# Altium schematic symbol library OpenCore_Sch_Lib.SchLib: 72 symbols (part 1 of 2)
Pins are listed as number, name and electrical type; pins without a type are passive.

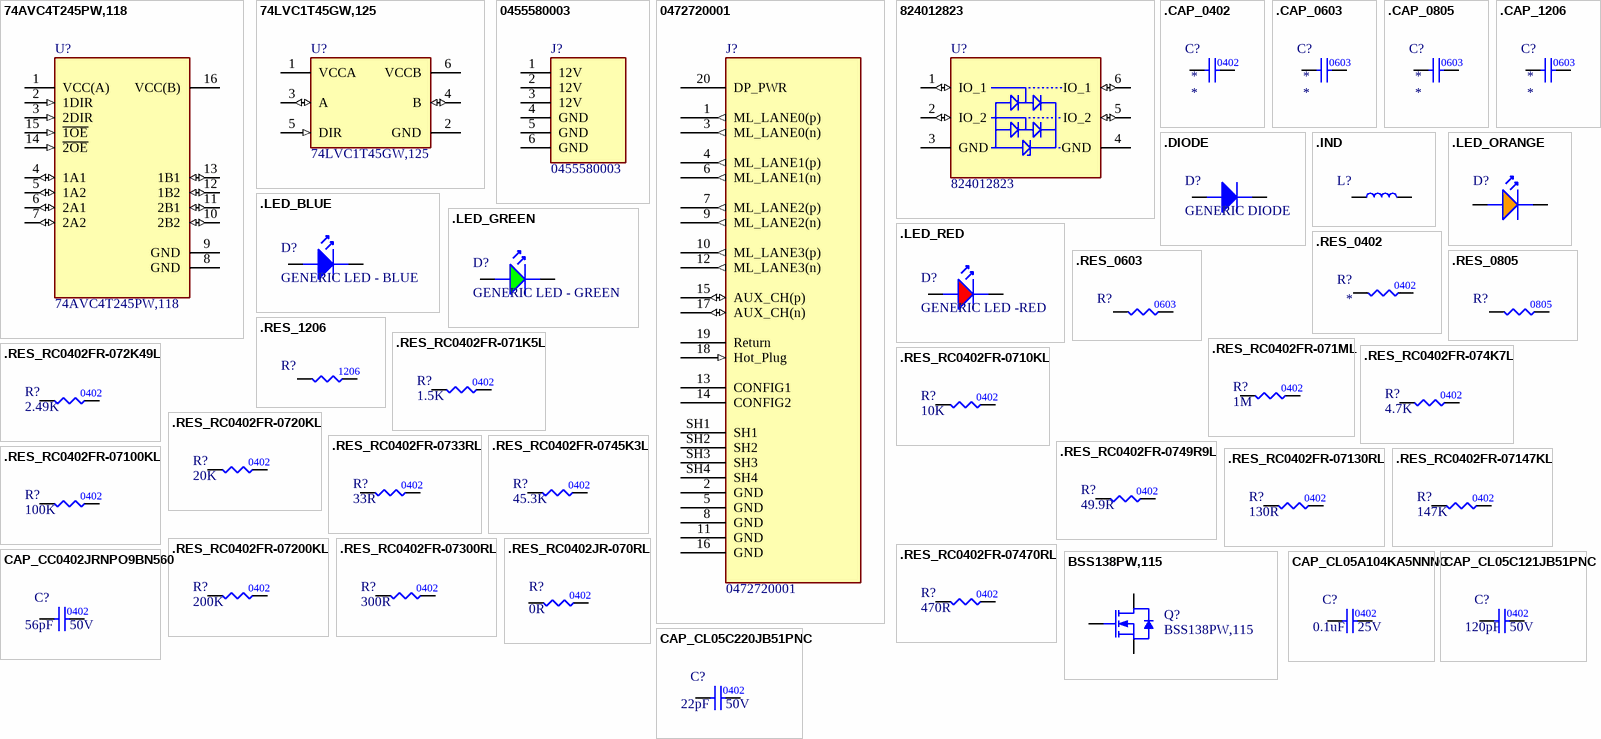
[diagram p0: symbols 74AVC4T245PW,118 to CAP_CL05C220JB51PNC]

## 74AVC4T245PW,118
designator U?
IC TRANSLATION TXRX 3.6V 16TSSOP; Manufacturer_Name: Nexperia; Datasheet Link: https://assets.nexperia.com/documents/data-sheet/74AVC4T245.pdf; Height: 1.1mm; Manufacturer_Part_Number: 74AVC4T245PW,118; Mouser Part Number: 771-74AVC4T245PW118; Mouser Price/Stock: https://www.mouser.co.uk/ProductDetail/Nexperia/74AVC4T245PW118?qs=Lc7Es0%252BIaGKdmOKZhQIwZQ%3D%3D; Arrow Part Number: 74AVC4T245PW,118; Arrow Price/Stock: https://www.arrow.com/en/products/74avc4t245pw118/nexperia?region=nac; Supplier 1: Digi-Key; Supplier Part Number 1: 1727-6573-6-ND
footprint SOP65P640X110-16N
pins: 1 VCC(A) (power), 2 1DIR (in), 3 2DIR (in), 4 1A1 (io), 5 1A2 (io), 6 2A1 (io), 7 2A2 (io), 8 GND (power), 9 GND (power), 10 2B2 (io), 11 2B1 (io), 12 1B2 (io), 13 1B1 (io), 14 ~{2OE} (in), 15 ~{1OE} (in), 16 VCC(B) (power)

## 74LVC1T45GW,125
designator U?
IC TRANSLTR BIDIRECTIONAL 6TSSOP
footprint NEXPERIA_TSSOP6 (TSOP, 6-Leads, Body 2.00x1.25mm, Pitch 0.65mm, IPC Medium Density)
pins: 1 VCCA (power), 2 GND (power), 3 A (io), 4 B (io), 5 DIR (in), 6 VCCB (power)

## 0455580003
designator J?
Connector Header Through Hole, Right Angle 6 position 0.165" (4.20mm); Manufacturer_Name: Molex; Datasheet Link: http://www.molex.com/pdm_docs/sd/455580003_sd.pdf; Height: 10mm; Manufacturer_Part_Number: 0455580003; Mouser Part Number: N/A; Mouser Price/Stock: https://www.mouser.co.uk/ProductDetail/Molex/0455580003?qs=PBcRNPEHKsr%252BGoTfgbyscA%3D%3D; Arrow Part Number: 0455580003; Arrow Price/Stock: https://www.arrow.com/en/products/0455580003/molex?region=nac
footprint 0455580003
pins: 1 12V (power), 2 12V (power), 3 12V (power), 4 GND (power), 5 GND (power), 6 GND (power)

## 0472720001
designator J?
CONN RCPT DISPLAYPORT 20P SMD RA; Manufacturer_Name: Molex; Datasheet Link: http://www.molex.com/pdm_docs/sd/472720001_sd.pdf; Height: 6.9mm; Manufacturer_Part_Number: 0472720001; Mouser Part Number: N/A; Mouser Price/Stock: https://www.mouser.co.uk/ProductDetail/Molex/0472720001?qs=PBcRNPEHKsrarbeLf7n8sg%3D%3D; Arrow Part Number: 0472720001; Arrow Price/Stock: https://www.arrow.com/en/products/0472720001/molex?region=europe
footprint 0472720001
pins: 1 ML_LANE0(p) (out), 2 GND (power), 3 ML_LANE0(n) (out), 4 ML_LANE1(p) (out), 5 GND (power), 6 ML_LANE1(n) (out), 7 ML_LANE2(p) (out), 8 GND (power), 9 ML_LANE2(n) (out), 10 ML_LANE3(p) (out), 11 GND (power), 12 ML_LANE3(n) (out), 13 CONFIG1, 14 CONFIG2, 15 AUX_CH(p) (io), 16 GND (power), 17 AUX_CH(n) (io), 18 Hot_Plug (in), 19 Return (power), 20 DP_PWR (power), SH1, SH2, SH3, SH4

## 824012823
designator U?
TVS DIODE 3.3VWM 13VC DFN1210-6; Manufacturer_Name: Wurth Elektronik; Voltage Breakdown: 4.5V; Datasheet Link: https://www.we-online.com/catalog/datasheet/824012823.pdf; Height: 0.5mm; Manufacturer_Part_Number: 824012823; Mouser Part Number: 710-824012823; Mouser Price/Stock: https://www.mouser.co.uk/ProductDetail/Wurth-Elektronik/824012823?qs=rrS6PyfT74dPtw7q26tZFg%3D%3D; Supplier 1: Digi-Key; Supplier Part Number: 732-11794-6-ND
footprint 824012823
pins: 1 IO_1 (io), 2 IO_2 (io), 3 GND (power), 4 GND (power), 5 IO_2 (io), 6 IO_1 (io)

## .CAP_0402
designator C?, comment CAP_0603  (value not drawn)
GENERIC 0402 CAP; Manufacturer: *; Manufacturer Part Number 1: *; Case/Package: 0402; Mounting Type: Surface Mount; Temperature Coefficient: *; Tolerance: *; Voltage Rating: *; Value: *
footprint CAP0402 (Chip Capacitor, Body 1x0.5mm, Height 0.35mm, IPC Medium Density)
pins: 1, 2

## .CAP_0603
designator C?, comment CAP_0603  (value not drawn)
GENERIC 0603 CAP; Manufacturer: *; Manufacturer Part Number 1: *; Case/Package: 0603; Mounting Type: Surface Mount; Temperature Coefficient: *; Tolerance: *; Voltage Rating: *; Value: *
footprint CAP0603
pins: 1, 2

## .CAP_0805
designator C?, comment CAP_0603  (value not drawn)
GENERIC 0805 CAP; Manufacturer: *; Manufacturer Part Number 1: *; Case/Package: 0805; Mounting Type: Surface Mount; Temperature Coefficient: *; Tolerance: *; Voltage Rating: *; Value: *
footprint CAP0805 (Chip Capacitor, Body 2.0x1.2mm, Height 0.45mm, IPC Medium Density)
pins: 1, 2
text: 0603

## .CAP_1206
designator C?, comment CAP_0603  (value not drawn)
GENERIC 1206 CAP; Manufacturer: *; Manufacturer Part Number 1: *; Case/Package: 1206; Mounting Type: Surface Mount; Temperature Coefficient: *; Tolerance: *; Voltage Rating: *; Value: *
footprint CAP1206 (Chip Capacitor, Body 3.2x1.6mm, Height 0.55mm, IPC Medium Density)
pins: 1, 2
text: 0603

## .DIODE
designator D?, comment GENERIC DIODE
pins: A Anode, K Cathode

## .IND
designator L?, comment Inductor  (value not drawn)
GENERIC INDUCTOR
pins: 1, 2

## .LED_BLUE
designator D?, comment GENERIC LED - BLUE
footprint LED_0603
pins: A Anode, K Cathode

## .LED_GREEN
designator D?, comment GENERIC LED - GREEN
Manufacturer Part Number: 150060VS75000
footprint LED_0603
pins: A Anode, K Cathode

## .LED_ORANGE
designator D?, comment GENERIC LED - ORANGE  (value not drawn)
Manufacturer Part Number: 150060AS75000
footprint LED_0603
pins: A Anode, K Cathode

## .LED_RED
designator D?, comment GENERIC LED -RED
GENERIC LED - RED; Manufacturer Part Number: 150060RS75000
footprint LED_0603
pins: A Anode, K Cathode

## .RES_0402
designator R?, comment RES_0402  (value not drawn)
GENERIC 0402 RES; Manufacturer: *; Manufacturer Part Number: *; Case/Package: *; Tolerance: *; Resistance: *
footprint RES0402 (Chip Resistor, Body 1x0.5mm, IPC Medium Density)
pins: 1, 2
text: 0402

## .RES_0603
designator R?, comment RES_0603  (value not drawn)
GENERIC 0603 RES
footprint RES0603 (Chip Resistor, Body 1.6x0.8mm, IPC Medium Density)
pins: 1, 2
text: 0603

## .RES_0805
designator R?, comment RES_0805  (value not drawn)
GENERIC 0805 RES
pins: 1, 2
text: 0805

## .RES_1206
designator R?, comment RES_1206  (value not drawn)
GENERIC 1206 RES
pins: 1, 2
text: 1206

## .RES_RC0402FR-071K5L
designator R?, comment Resistance: 1.5K  (hidden comment: RES_0402)
RES 1.5K OHM 1% 1/16W 0402; Manufacturer: YAGEO; Manufacturer Part Number: RC0402FR-071K5L; Case/Package: 0402; Tolerance: 1%
footprint RES0402 (Chip Resistor, Body 1x0.5mm, IPC Medium Density)
pins: 1, 2

## .RES_RC0402FR-071ML
designator R?, comment Resistance: 1M  (hidden comment: RES_0402)
RES 1M OHM 1% 1/16W 0402; Manufacturer: YAGEO; Manufacturer Part Number: RC0402FR-071ML; Case/Package: 0402; Tolerance: 1%
footprint RES0402 (Chip Resistor, Body 1x0.5mm, IPC Medium Density)
pins: 1, 2

## .RES_RC0402FR-072K49L
designator R?, comment Resistance: 2.49K  (hidden comment: RES_0402)
RES 2.49K OHM 1% 1/16W 0402; Manufacturer: YAGEO; Manufacturer Part Number: RC0402FR-072K49L; Case/Package: 0402; Tolerance: 1%
footprint RES0402 (Chip Resistor, Body 1x0.5mm, IPC Medium Density)
pins: 1, 2

## .RES_RC0402FR-074K7L
designator R?, comment Resistance: 4.7K  (hidden comment: RES_0402)
RES 4.7K OHM 1% 1/16W 0402; Manufacturer: YAGEO; Manufacturer Part Number: RC0402FR-074K7L; Case/Package: 0402; Tolerance: 1%
footprint RES0402 (Chip Resistor, Body 1x0.5mm, IPC Medium Density)
pins: 1, 2

## .RES_RC0402FR-0710KL
designator R?, comment Resistance: 10K  (hidden comment: RES_0402)
RES 10K OHM 1% 1/16W 0402; Manufacturer: YAGEO; Manufacturer Part Number: RC0402FR-0710KL; Case/Package: 0402; Tolerance: 1%
footprint RES0402 (Chip Resistor, Body 1x0.5mm, IPC Medium Density)
pins: 1, 2

## .RES_RC0402FR-0720KL
designator R?, comment Resistance: 20K  (hidden comment: RES_0402)
RES 20K OHM 1% 1/16W 0402; Manufacturer: YAGEO; Manufacturer Part Number: RC0402FR-0720KL; Case/Package: 0402; Tolerance: 1%
footprint RES0402 (Chip Resistor, Body 1x0.5mm, IPC Medium Density)
pins: 1, 2

## .RES_RC0402FR-0733RL
designator R?, comment Resistance: 33R  (hidden comment: RES_0402)
RES 33 OHM 1% 1/16W 0402; Manufacturer: YAGEO; Manufacturer Part Number: RC0402FR-0733RL; Case/Package: 0402; Tolerance: 1%
footprint RES0402 (Chip Resistor, Body 1x0.5mm, IPC Medium Density)
pins: 1, 2

## .RES_RC0402FR-0745K3L
designator R?, comment Resistance: 45.3K  (hidden comment: RES_0402)
RES 45.3K OHM 1% 1/16W 0402; Manufacturer: YAGEO; Manufacturer Part Number: RC0402FR-0745K3L; Case/Package: 0402; Tolerance: 1%
footprint RES0402 (Chip Resistor, Body 1x0.5mm, IPC Medium Density)
pins: 1, 2

## .RES_RC0402FR-0749R9L
designator R?, comment Resistance: 49.9R  (hidden comment: RES_0402)
RES 49.9 OHM 1% 1/16W 0402; Manufacturer: YAGEO; Manufacturer Part Number: RC0402FR-0749R9L; Case/Package: 0402; Tolerance: 1%
footprint RES0402 (Chip Resistor, Body 1x0.5mm, IPC Medium Density)
pins: 1, 2

## .RES_RC0402FR-07100KL
designator R?, comment Resistance: 100K  (hidden comment: RES_0402)
RES 100K OHM 1% 1/16W 0402; Manufacturer: YAGEO; Manufacturer Part Number: RC0402FR-07100KL; Case/Package: 0402; Tolerance: 1%
footprint RES0402 (Chip Resistor, Body 1x0.5mm, IPC Medium Density)
pins: 1, 2

## .RES_RC0402FR-07130RL
designator R?, comment Resistance: 130R  (hidden comment: RES_0402)
RES 130 OHM 1% 1/10W 0402; Manufacturer: YAGEO; Manufacturer Part Number: RC0402FR-07130RL; Case/Package: 0402; Tolerance: 1%
footprint RES0402 (Chip Resistor, Body 1x0.5mm, IPC Medium Density)
pins: 1, 2

## .RES_RC0402FR-07147KL
designator R?, comment Resistance: 147K  (hidden comment: RES_0402)
RES 147K OHM 1% 1/16W 0402; Manufacturer: YAGEO; Manufacturer Part Number: RC0402FR-07147KL; Case/Package: 0402; Tolerance: 1%
footprint RES0402 (Chip Resistor, Body 1x0.5mm, IPC Medium Density)
pins: 1, 2

## .RES_RC0402FR-07200KL
designator R?, comment Resistance: 200K  (hidden comment: RES_0402)
RES 200K OHM 1% 1/16W 0402; Manufacturer: YAGEO; Manufacturer Part Number: RC0402FR-07200KL; Case/Package: 0402; Tolerance: 1%
footprint RES0402 (Chip Resistor, Body 1x0.5mm, IPC Medium Density)
pins: 1, 2

## .RES_RC0402FR-07300RL
designator R?, comment Resistance: 300R  (hidden comment: RES_0402)
RES 300 OHM 1% 1/16W 0402; Manufacturer: YAGEO; Manufacturer Part Number: RC0402FR-07300RL; Case/Package: 0402; Tolerance: 1%
footprint RES0402 (Chip Resistor, Body 1x0.5mm, IPC Medium Density)
pins: 1, 2

## .RES_RC0402FR-07470RL
designator R?, comment Resistance: 470R  (hidden comment: RES_0402)
RES 470 OHM 1% 1/16W 0402; Manufacturer: YAGEO; Manufacturer Part Number: RC0402FR-07470RL; Case/Package: 0402; Tolerance: 1%
footprint RES0402 (Chip Resistor, Body 1x0.5mm, IPC Medium Density)
pins: 1, 2

## .RES_RC0402JR-070RL
designator R?, comment Resistance: 0R  (hidden comment: RES_0402)
RES 0 OHM JUMPER 1/16W 0402; Manufacturer: YAGEO; Manufacturer Part Number: RC0402JR-070RL; Tolerance: 1%; Case/Package: 0402
footprint RES0402 (Chip Resistor, Body 1x0.5mm, IPC Medium Density)
pins: 1, 2

## BSS138PW,115
designator Q?
MOSFET N-CH 60V 320MA SOT323
footprint NEXPERIA_SOT323 (SOT323, 3-Leads, Body 2.00x2.10mm, Pitch 0.65mm, IPC Medium Density)
pins: 1 Gate, 2 Source, 3 Drain

## CAP_CC0402JRNPO9BN560
designator C?, comment value 56pF  Voltage Rating: 50V  (hidden comment: CAP_0402)
CAP CER 56PF 50V C0G/NPO 0402; Manufacturer: YAGEO; Manufacturer Part Number 1: CC0402JRNPO9BN560; Temperature Coefficient: C0G; Tolerance: 5%; Case/Package: 0402; Mounting Type: Surface Mount
footprint CAP0402 (Chip Capacitor, Body 1x0.5mm, Height 0.35mm, IPC Medium Density)
pins: 1, 2

## CAP_CL05A104KA5NNNC
designator C?, comment value 0.1uF  Voltage Rating: 25V  (hidden comment: CAP_0402)
CAP CER 0.1UF 25V X5R 0402; Manufacturer: Samsung Electro-Mechanics; Manufacturer Part Number 1: CL05A104KA5NNNC; Tolerance: 10%; Case/Package: 0402; Mounting Type: Surface Mount; Temperature Coefficient: X5R
footprint CAP0402 (Chip Capacitor, Body 1x0.5mm, Height 0.35mm, IPC Medium Density)
pins: 1, 2

## CAP_CL05C121JB51PNC
designator C?, comment value 120pF  Voltage Rating: 50V  (hidden comment: CAP_0402)
CAP CER 120PF 50V C0G/NP0 0402; Manufacturer: Samsung Electro-Mechanics; Manufacturer Part Number 1: CL05C121JB51PNC; Temperature Coefficient: C0G; Tolerance: 5%; Case/Package: 0402; Mounting Type: Surface Mount
footprint CAP0402 (Chip Capacitor, Body 1x0.5mm, Height 0.35mm, IPC Medium Density)
pins: 1, 2

## CAP_CL05C220JB51PNC
designator C?, comment value 22pF  Voltage Rating: 50V  (hidden comment: CAP_0402)
CAP CER 22PF 50V C0G/NP0 0402; Manufacturer: Samsung Electro-Mechanics; Manufacturer Part Number 1: CL05C220JB51PNC; Temperature Coefficient: C0G; Tolerance: 5%; Case/Package: 0402; Mounting Type: Surface Mount
footprint CAP0402 (Chip Capacitor, Body 1x0.5mm, Height 0.35mm, IPC Medium Density)
pins: 1, 2

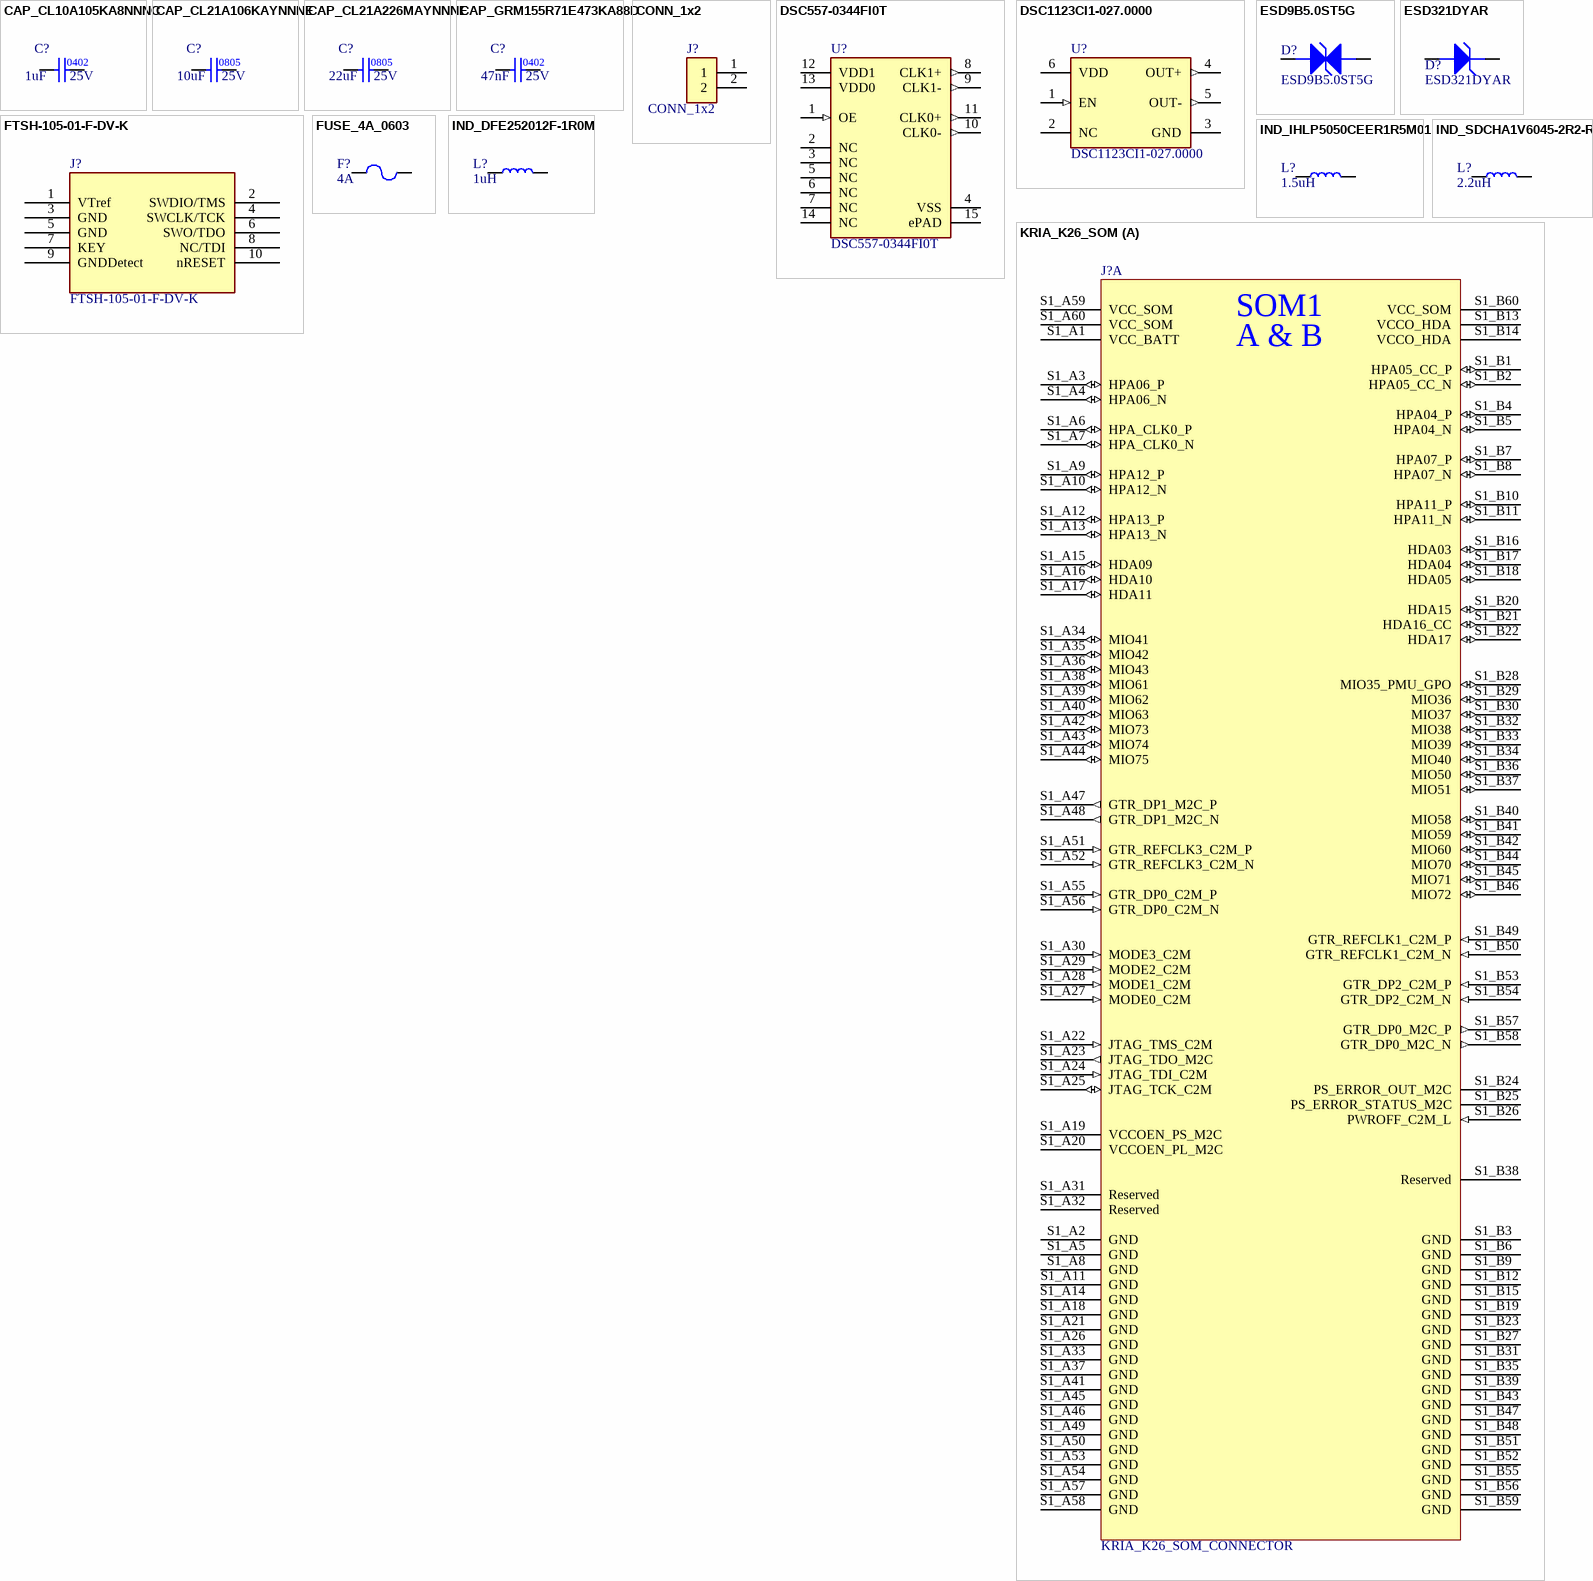
[diagram p1: symbols CAP_CL10A105KA8NNNC to KRIA_K26_SOM]

## CAP_CL10A105KA8NNNC
designator C?, comment value 1uF  Voltage Rating: 25V  (hidden comment: CAP_0402)
CAP CER 1UF 25V X5R 0603; Manufacturer: Samsung Electro-Mechanics; Manufacturer Part Number 1: CL10A105KA8NNNC; Tolerance: 10%; Case/Package: 0402; Mounting Type: Surface Mount; Temperature Coefficient: X5R
footprint CAP0402 (Chip Capacitor, Body 1x0.5mm, Height 0.35mm, IPC Medium Density)
pins: 1, 2

## CAP_CL21A106KAYNNNE
designator C?, comment value 10uF  Voltage Rating: 25V  (hidden comment: CAP_0805)
CAP CER 10UF 25V X5R 0805; Manufacturer: Samsung Electro-Mechanics; Manufacturer Part Number 1: CL21A106KAYNNNE; Tolerance: 10%; Case/Package: 0805; Mounting Type: Surface Mount; Temperature Coefficient: X5R
footprint CAP0805 (Chip Capacitor, Body 2.0x1.2mm, Height 0.45mm, IPC Medium Density)
pins: 1, 2

## CAP_CL21A226MAYNNNE
designator C?, comment value 22uF  Voltage Rating: 25V  (hidden comment: CAP_0805)
CAP CER 22UF 25V X5R 0805; Manufacturer: Samsung Electro-Mechanics; Manufacturer Part Number 1: CL21A226MAYNNNE; Tolerance: 20%; Case/Package: 0805; Mounting Type: Surface Mount; Temperature Coefficient: X5R
footprint CAP0805 (Chip Capacitor, Body 2.0x1.2mm, Height 0.45mm, IPC Medium Density)
pins: 1, 2

## CAP_GRM155R71E473KA88D
designator C?, comment value 47nF  Voltage Rating: 25V  (hidden comment: CAP_0402)
CAP CER 0.047UF 25V X7R 0402; Manufacturer: Murata Electronics; Manufacturer Part Number 1: GRM155R71E473KA88D; Tolerance: 10%; Case/Package: 0402; Mounting Type: Surface Mount; Temperature Coefficient: X7R
footprint CAP0402 (Chip Capacitor, Body 1x0.5mm, Height 0.35mm, IPC Medium Density)
pins: 1, 2

## CONN_1x2
designator J?
footprint 61300211121 (CONN HEADER VERT 2POS 2.54MM)
pins: 1, 2

## DSC557-0344FI0T
designator U?
IC CLOCK GEN PCIE 14QFN
footprint MICROCHIP_QFN2532-14
pins: 1 OE (in), 2 NC, 3 NC, 4 VSS (power), 5 NC, 6 NC, 7 NC, 8 CLK1+ (out), 9 CLK1- (out), 10 CLK0- (out), 11 CLK0+ (out), 12 VDD1 (power), 13 VDD0 (power), 14 NC, 15 ePAD (power)

## DSC1123CI1-027.0000
designator U?
MEMS OSC XO 27.0000MHZ LVDS SMD
footprint MICROCHIP_VDFN-6_H5A
pins: 1 EN (in), 2 NC, 3 GND (power), 4 OUT+ (out), 5 OUT- (out), 6 VDD (power)

## ESD9B5.0ST5G
designator D?
TVS DIODE 5VWM SOD923; Manufacturer Part Number: ESD9B5.0ST5G
footprint ONSEMI_SOD-923
pins: A Anode, K Cathode

## ESD321DYAR
designator D?
TVS DIODE 3.6VWM 6.3VC SOT5X3; Manfacturer Part Number: ESD321DYAR
footprint TI_SOD523
pins: A Anode, K Cathode

## FTSH-105-01-F-DV-K
designator J?
CONN HEADER SMD 10POS 1.27MM; Manufacturer: Samtec; Number of Positions: 10; Number of Rows: 2; Manufacturer Part Number 1: FTSH-105-01-F-DV-K
footprint FTSH-105-01-F-DV-K-P-TR (Samtec programming header 10 positions)
pins: 1 VTref (power), 2 SWDIO/TMS, 3 GND (power), 4 SWCLK/TCK, 5 GND (power), 6 SWO/TDO, 7 KEY, 8 NC/TDI, 9 GNDDetect, 10 nRESET

## FUSE_4A_0603
designator F?  Current Rating: 4A
FUSE SMD 4A 32V; Manufacturer 1: Vishay; Manufacturer Part Number 1: MFU0603FF04000P500; Package/Footprint: 0603; Voltage Rating (DC): 32V; Supplier 1: Digi-Key; Mounting Type: SMD; Supplier Part Number 1: 749-MFU0603FF04000P500DKR-ND
footprint FUSE_0603 (Chip Fuse, Body 1.6x0.81mm)
pins: 1, 2

## IND_DFE252012F-1R0M
designator L?, comment Inductance: 1uH  (hidden comment: DFE252012F-1R0M)
FIXED IND 1UH 3.3A 0.04OHM SMD; Manufacturer: Murata Electronics; Saturation Current: 4.7A; DC Resistance (DCR): 40mOhm; Tolerance: 20%; Case/Package: 2520; Manufacturer Part Number: DFE252012F-1R0M; Current Rating: 3.3A
footprint IND_2520
pins: 1, 2

## IND_IHLP5050CEER1R5M01
designator L?, comment Inductance: 1.5uH  (hidden comment: IHLP5050CEER1R5M01)
FIXED IND 1.5UH 19A 5.5 MOHM SMD; Manufacturer: Vishay Dale; Saturation Current: 35A; Tolerance: 20%; Case/Package: Nonstandard; Manufacturer Part Number: IHLP5050CEER1R5M01; Current Rating: 19A; DC Resistance (DCR): 5.5mOhm
footprint IHLP5050CEER1R5M01 (Vishay Dale Inductor - 13.2mm x 12.9mm)
pins: 1, 2

## IND_SDCHA1V6045-2R2-R
designator L?, comment Inductance: 2.2uH  (hidden comment: SDCHA1V6045-2R2-R)
IND SMD POWER 2.2UH 6.0A; Manufacturer: Eaton - Electronics Division; Saturation Current: 9.5A; Current Rating: 6A; DC Resistance (DCR): 15mOhm; Tolerance: 20%; Case/Package: Nonstandard; Manufacturer Part Number: SDCHA1V6045-2R2-R
footprint SDCHA1V6045-2R2-R (Eaton 6mm x 6mm)
pins: 1, 2

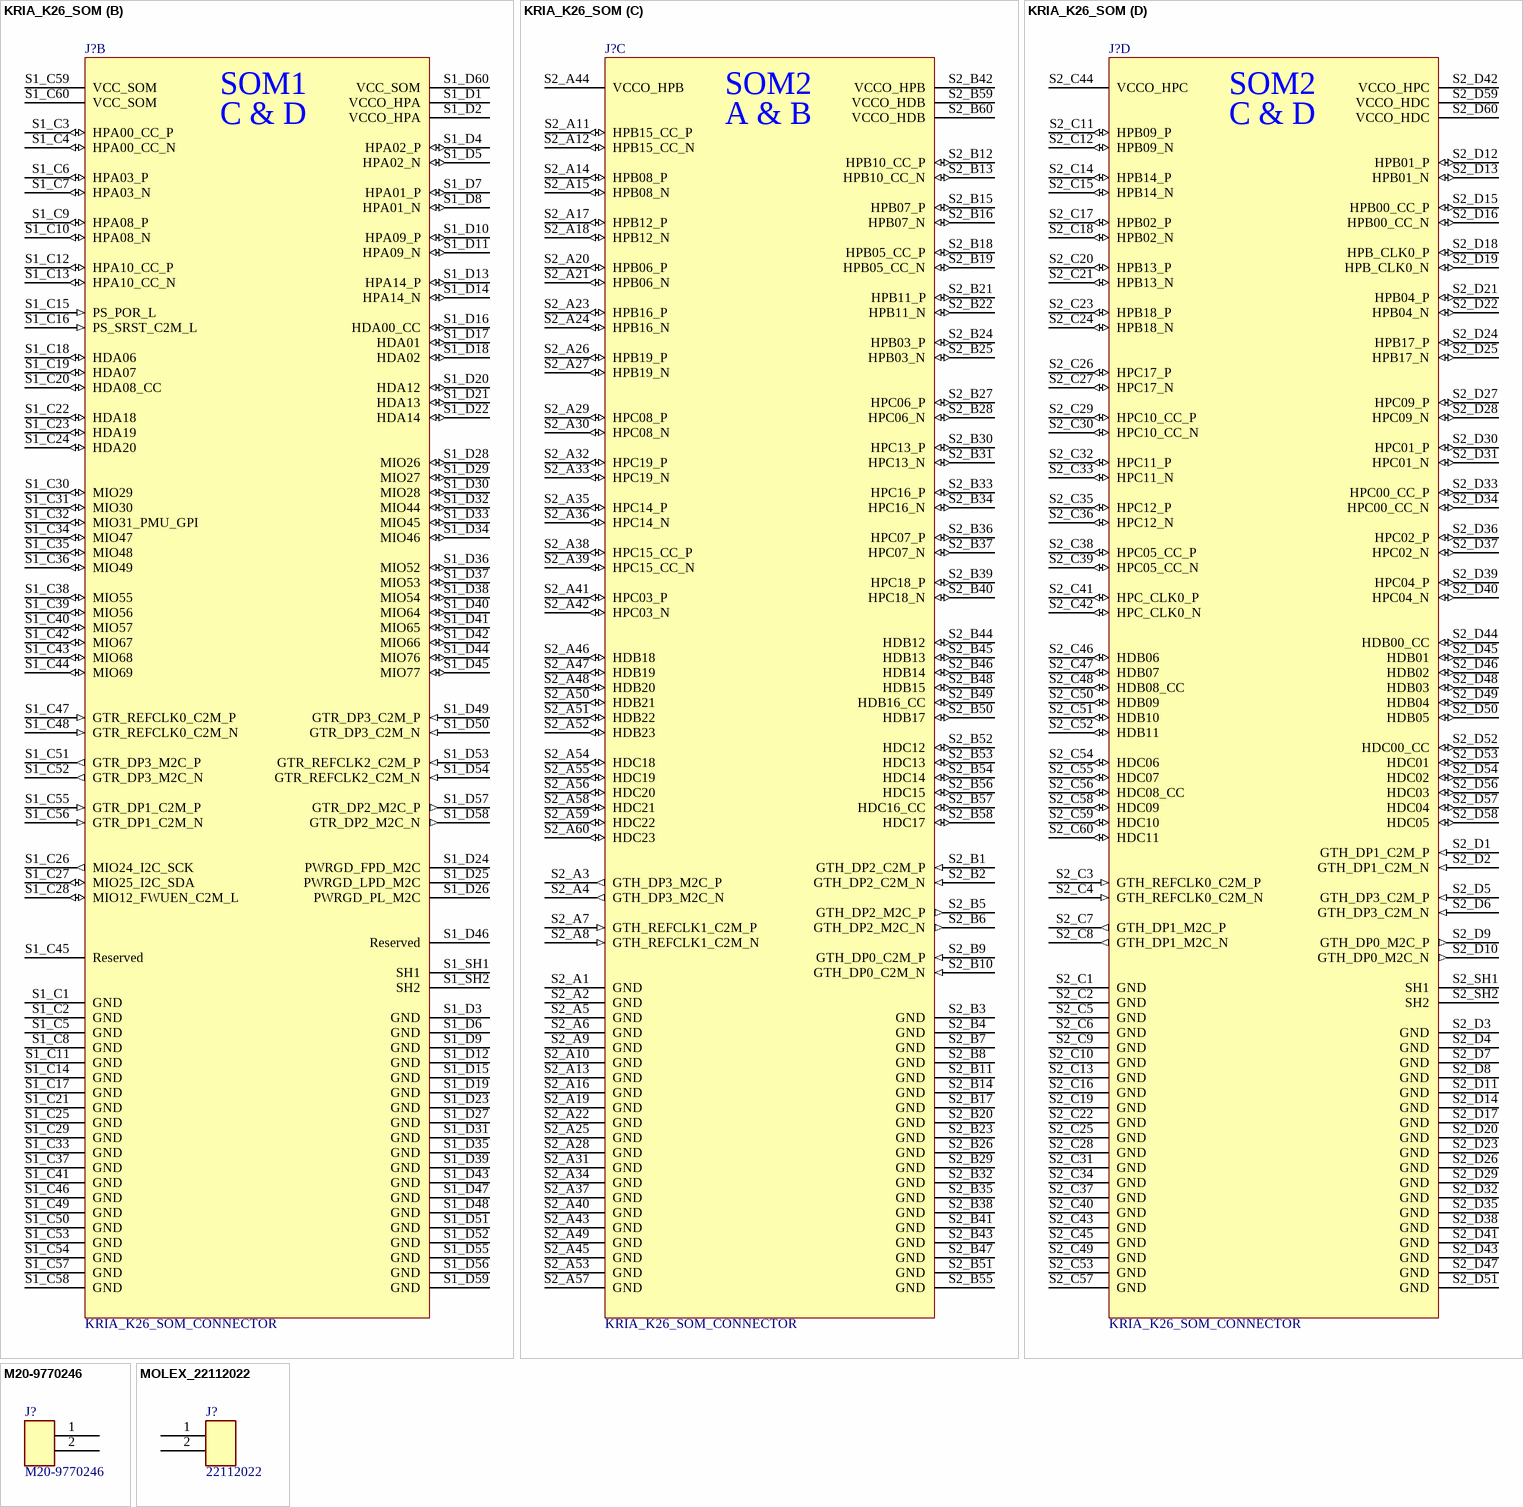
[diagram p2: symbols KRIA_K26_SOM to MOLEX_22112022]

## KRIA_K26_SOM
designator J?, comment KRIA_K26_SOM_CONNECTOR
2 x 240 pos Samtec REF-226081-01; Number of Positions: 480; Manufacturer: Samtec; Manufacturer Part NUmber: REF-226081-01; Number of Rows: 8
footprint KRIA_K26_SOM
part A pins: S1_A1 VCC_BATT (power) "PS BBRAM and real-time clock (RTC) supply voltage, requires external battery. Connect to GND when battery is not used.", S1_A2 GND (power) "Ground, connect to carrier card ground plane", S1_A3 HPA06_P (io) "HPIO on bank 66", S1_A4 HPA06_N (io) "HPIO on bank 66", S1_A5 GND (power) "Ground, connect to carrier card ground plane", S1_A6 HPA_CLK0_P (io) "HPIO global clock pin on bank 66", S1_A7 HPA_CLK0_N (io) "HPIO global clock pin on bank 66", S1_A8 GND (power) "Ground, connect to carrier card ground plane", S1_A9 HPA12_P (io) "HPIO on bank 66", S1_A10 HPA12_N (io) "HPIO on bank 66", S1_A11 GND (power) "Ground, connect to carrier card ground plane", S1_A12 HPA13_P (io) "HPIO on bank 66", S1_A13 HPA13_N (io) "HPIO on bank 66", S1_A14 GND (power) "Ground, connect to carrier card ground plane", S1_A15 HDA09 (io) "HDIO on bank 45", S1_A16 HDA10 (io) "HDIO on bank 45", S1_A17 HDA11 (io) "HDIO on bank 45", S1_A18 GND (power) "Ground, connect to carrier card ground plane", S1_A19 VCCOEN_PS_M2C "Indication to turn on power for PS I/O peripherals on the carrier card", S1_A20 VCCOEN_PL_M2C "Indication to turn on power for PL /IO peripherals on the carrier card", S1_A21 GND (power) "Ground, connect to carrier card ground plane", S1_A22 JTAG_TMS_C2M (in) "JTAG mode select", S1_A23 JTAG_TDO_M2C (out) "JTAG data out", S1_A24 JTAG_TDI_C2M (in) "JTAG data in", S1_A25 JTAG_TCK_C2M (io) "JTAG clock", S1_A26 GND (power) "Ground, connect to carrier card ground plane", S1_A27 MODE0_C2M (in) "PS mode bit 0", S1_A28 MODE1_C2M (in) "PS mode bit 1", S1_A29 MODE2_C2M (in) "PS mode bit 2", S1_A30 MODE3_C2M (in) "PS mode bit 3", S1_A31 Reserved "No connect on the SOM", S1_A32 Reserved "No connect on the SOM", S1_A33 GND (power) "Ground, connect to carrier card ground plane", S1_A34 MIO41 (io) "PS MIO signal on bank 501", S1_A35 MIO42 (io) "PS MIO signal on bank 501", S1_A36 MIO43 (io) "PS MIO signal on bank 501", S1_A37 GND (power) "Ground, connect to carrier card ground plane", S1_A38 MIO61 (io) "PS MIO signal on bank 502", S1_A39 MIO62 (io) "PS MIO signal on bank 502", S1_A40 MIO63 (io) "PS MIO signal on bank 502", S1_A41 GND (power) "Ground, connect to carrier card ground plane", S1_A42 MIO73 (io) "PS MIO signal on bank 502", S1_A43 MIO74 (io) "PS MIO signal on bank 502", S1_A44 MIO75 (io) "PS MIO signal on bank 502", S1_A45 GND (power) "Ground, connect to carrier card ground plane", S1_A46 GND (power) "Ground, connect to carrier card ground plane", S1_A47 GTR_DP1_M2C_P (out) "PS-GTR lane 1 TX, bank 505", S1_A48 GTR_DP1_M2C_N (out) "PS-GTR lane 1 TX, bank 505", S1_A49 GND (power) "Ground, connect to carrier card ground plane", S1_A50 GND (power) "Ground, connect to carrier card ground plane", S1_A51 GTR_REFCLK3_C2M_P (in) "PS-GTR REFCLK3 input, bank 505", S1_A52 GTR_REFCLK3_C2M_N (in) "PS-GTR REFCLK3 input, bank 505", S1_A53 GND (power) "Ground, connect to carrier card ground plane", S1_A54 GND (power) "Ground, connect to carrier card ground plane", S1_A55 GTR_DP0_C2M_P (in) "PS-GTR lane 0 RX, bank 505", S1_A56 GTR_DP0_C2M_N (in) "PS-GTR lane 0 RX, bank 505", S1_A57 GND (power) "Ground, connect to carrier card ground plane", S1_A58 GND (power) "Ground, connect to carrier card ground plane", S1_A59 VCC_SOM (power) "SOM main supply voltage, +5V", S1_A60 VCC_SOM (power) "SOM main supply voltage, +5V", S1_B1 HPA05_CC_P (io) "HPIO clock-capable pin on bank 66", S1_B2 HPA05_CC_N (io) "HPIO clock-capable pin on bank 66", S1_B3 GND (power) "Ground, connect to carrier card ground plane", S1_B4 HPA04_P (io) "HPIO on bank 66", S1_B5 HPA04_N (io) "HPIO on bank 66", S1_B6 GND (power) "Ground, connect to carrier card ground plane", S1_B7 HPA07_P (io) "HPIO on bank 66", S1_B8 HPA07_N (io) "HPIO on bank 66", S1_B9 GND (power) "Ground, connect to carrier card ground plane", S1_B10 HPA11_P (io) "HPIO on bank 66", S1_B11 HPA11_N (io) "HPIO on bank 66", S1_B12 GND (power) "Ground, connect to carrier card ground plane", S1_B13 VCCO_HDA (power) "HDA I/O voltage rail, 1.2V to 3.3V", S1_B14 VCCO_HDA (power) "HDA I/O voltage rail, 1.2V to 3.3V", S1_B15 GND (power) "Ground, connect to carrier card ground plane", S1_B16 HDA03 (io) "HDIO on bank 45", S1_B17 HDA04 (io) "HDIO on bank 45", S1_B18 HDA05 (io) "HDIO on bank 45", S1_B19 GND (power) "Ground, connect to carrier card ground plane", S1_B20 HDA15 (io) "HDIO on bank 45", S1_B21 HDA16_CC (io) "HDIO clock-capable pin on bank 45", S1_B22 HDA17 (io) "HDIO on bank 45", S1_B23 GND (power) "Ground, connect to carrier card ground plane", S1_B24 PS_ERROR_OUT_M2C "PS error indication from SOM", S1_B25 PS_ERROR_STATUS_M2C "PS error status from SOM", S1_B26 PWROFF_C2M_L (in) "Control signal to turn off all power rails on the SOM", S1_B27 GND (power) "Ground, connect to carrier card ground plane", S1_B28 MIO35_PMU_GPO (io) "PS MIO signal on bank 501. Optional use as PMU output mapped to PMU function (e.g., watchdog or reset).", S1_B29 MIO36 (io) "PS MIO signal on bank 501. Optional use as PMU output. Default use as UART txd in the released Kria PetaLinux BSPs.", S1_B30 MIO37 (io) "PS MIO signal on bank 501. Optional use as PMU output. Default use as UART rxd in the released Kria PetaLinux BSPs.", S1_B31 GND (power) "Ground, connect to carrier card ground plane", S1_B32 MIO38 (io) "PS MIO signal on bank 501", S1_B33 MIO39 (io) "PS MIO signal on bank 501", S1_B34 MIO40 (io) "PS MIO signal on bank 501", S1_B35 GND (power) "Ground, connect to carrier card ground plane", S1_B36 MIO50 (io) "PS MIO signal on bank 501", S1_B37 MIO51 (io) "PS MIO signal on bank 501", S1_B38 Reserved "Not connected to SOM connector", S1_B39 GND (power) "Ground, connect to carrier card ground plane", S1_B40 MIO58 (io) "PS MIO signal on bank 502", S1_B41 MIO59 (io) "PS MIO signal on bank 502", S1_B42 MIO60 (io) "PS MIO signal on bank 502", S1_B43 GND (power) "Ground, connect to carrier card ground plane", S1_B44 MIO70 (io) "PS MIO signal on bank 502", S1_B45 MIO71 (io) "PS MIO signal on bank 502", S1_B46 MIO72 (io) "PS MIO signal on bank 502", S1_B47 GND (power) "Ground, connect to carrier card ground plane", S1_B48 GND (power) "Ground, connect to carrier card ground plane", S1_B49 GTR_REFCLK1_C2M_P (in) "PS-GTR REFCLK1 input, bank 505", S1_B50 GTR_REFCLK1_C2M_N (in) "PS-GTR REFCLK1 input, bank 505", S1_B51 GND (power) "Ground, connect to carrier card ground plane", S1_B52 GND (power) "Ground, connect to carrier card ground plane", S1_B53 GTR_DP2_C2M_P (in) "PS-GTR lane 2 RX, bank 505", S1_B54 GTR_DP2_C2M_N (in) "PS-GTR lane 2 RX, bank 505", S1_B55 GND (power) "Ground, connect to carrier card ground plane", S1_B56 GND (power) "Ground, connect to carrier card ground plane", S1_B57 GTR_DP0_M2C_P (out) "PS-GTR lane 0 TX, bank 505", S1_B58 GTR_DP0_M2C_N (out) "PS-GTR lane 0 TX, bank 505", S1_B59 GND (power) "Ground, connect to carrier card ground plane", S1_B60 VCC_SOM (power) "SOM main supply voltage, +5V"
part B pins: S1_C1 GND (power) "Ground, connect to carrier card ground plane", S1_C2 GND (power) "Ground, connect to carrier card ground plane", S1_C3 HPA00_CC_P (io) "HPIO clock-capable pin on bank 66", S1_C4 HPA00_CC_N (io) "HPIO clock-capable pin on bank 66", S1_C5 GND (power) "Ground, connect to carrier card ground plane", S1_C6 HPA03_P (io) "HPIO on bank 66", S1_C7 HPA03_N (io) "HPIO on bank 66", S1_C8 GND (power) "Ground, connect to carrier card ground plane", S1_C9 HPA08_P (io) "HPIO on bank 66", S1_C10 HPA08_N (io) "HPIO on bank 66", S1_C11 GND (power) "Ground, connect to carrier card ground plane", S1_C12 HPA10_CC_P (io) "HPIO clock-capable pin on bank 66", S1_C13 HPA10_CC_N (io) "HPIO clock-capable pin on bank 66", S1_C14 GND (power) "Ground, connect to carrier card ground plane", S1_C15 PS_POR_L (in) "PS power-on reset driven by the carrier card. When deasserted, the PS begins the boot process.", S1_C16 PS_SRST_C2M_L (in) "PS system reset driven by the carrier card. When asserted, forces the PS to enter the system reset sequence.", S1_C17 GND (power) "Ground, connect to carrier card ground plane", S1_C18 HDA06 (io) "HDIO on bank 45", S1_C19 HDA07 (io) "HDIO on bank 45", S1_C20 HDA08_CC (io) "HDIO clock-capable pin on bank 45", S1_C21 GND (power) "Ground", S1_C22 HDA18 (io) "HDIO on bank 45", S1_C23 HDA19 (io) "HDIO on bank 45", S1_C24 HDA20 (io) "HDIO on bank 45", S1_C25 GND (power) "Ground, connect to carrier card ground plane", S1_C26 MIO24_I2C_SCK (out) "PS I2C clock output, bank 500", S1_C27 MIO25_I2C_SDA (io) "PS I2C serial data, bank 500", S1_C28 MIO12_FWUEN_C2M_L (io) "PS MIO signal on bank 500. Optional default use as firmware update enable indication in the released Kria PetaLinux BSPs.", S1_C29 GND (power) "Ground, connect to carrier card ground plane", S1_C30 MIO29 (io) "PS MIO signal on bank 501. Optional use as PMU input.", S1_C31 MIO30 (io) "PS MIO signal on bank 501. Optional use as PMU input.", S1_C32 MIO31_PMU_GPI (io) "PS MIO signal on bank 501. Optional use as PMU input. In default Kria PetaLinux BSPs, this is a PMU library enabled input for hardware-initiated shutdown by the PMU.", S1_C33 GND (power) "Ground, connect to carrier card ground plane", S1_C34 MIO47 (io) "PS MIO signal on bank 501", S1_C35 MIO48 (io) "PS MIO signal on bank 501", S1_C36 MIO49 (io) "PS MIO signal on bank 501", S1_C37 GND (power) "Ground, connect to carrier card ground plane", S1_C38 MIO55 (io) "PS MIO signal on bank 502", S1_C39 MIO56 (io) "PS MIO signal on bank 502", S1_C40 MIO57 (io) "PS MIO signal on bank 502", S1_C41 GND (power) "Ground, connect to carrier card ground plane", S1_C42 MIO67 (io) "PS MIO signal on bank 502", S1_C43 MIO68 (io) "PS MIO signal on bank 502", S1_C44 MIO69 (io) "PS MIO signal on bank 502", S1_C45 Reserved "No connect on the SOM", S1_C46 GND (power) "Ground, connect to carrier card ground plane", S1_C47 GTR_REFCLK0_C2M_P (in) "PS-GTR REFCLK0 input, bank 505", S1_C48 GTR_REFCLK0_C2M_N (in) "PS-GTR REFCLK0 input, bank 505", S1_C49 GND (power) "Ground, connect to carrier card ground plane", S1_C50 GND (power) "Ground, connect to carrier card ground plane", S1_C51 GTR_DP3_M2C_P (out) "PS-GTR lane 3 TX, bank 505", S1_C52 GTR_DP3_M2C_N (out) "PS-GTR lane 3 TX, bank 505", S1_C53 GND (power) "Ground, connect to carrier card ground plane", S1_C54 GND (power) "Ground, connect to carrier card ground plane", S1_C55 GTR_DP1_C2M_P (in) "PS-GTR lane 1 RX, bank 505", S1_C56 GTR_DP1_C2M_N (in) "PS-GTR lane 1 RX, bank 505", S1_C57 GND (power) "Ground, connect to carrier card ground plane", S1_C58 GND (power) "Ground, connect to carrier card ground plane", S1_C59 VCC_SOM (power) "SOM main supply voltage, +5V", S1_C60 VCC_SOM (power) "SOM main supply voltage, +5V", S1_D1 VCCO_HPA (power) "HPA I/O voltage rail, 1.0V to 1.8V", S1_D2 VCCO_HPA (power) "HPA I/O voltage rail, 1.0V to 1.8V", S1_D3 GND (power) "Ground, connect to carrier card ground plane", S1_D4 HPA02_P (io) "HPIO on bank 66", S1_D5 HPA02_N (io) "HPIO on bank 66", S1_D6 GND (power) "Ground, connect to carrier card ground plane", S1_D7 HPA01_P (io) "HPIO on bank 66", S1_D8 HPA01_N (io) "HPIO on bank 66", S1_D9 GND (power) "Ground, connect to carrier card ground plane", S1_D10 HPA09_P (io) "HPIO on bank 66", S1_D11 HPA09_N (io) "HPIO on bank 66", S1_D12 GND (power) "Ground, connect to carrier card ground plane", S1_D13 HPA14_P (io) "HPIO on bank 66", S1_D14 HPA14_N (io) "HPIO on bank 66", S1_D15 GND (power) "Ground, connect to carrier card ground plane", S1_D16 HDA00_CC (io) "HDIO clock-capable pin on bank 45", S1_D17 HDA01 (io) "HDIO on bank 45", S1_D18 HDA02 (io) "HDIO on bank 45", S1_D19 GND (power) "Ground, connect to carrier card ground plane", S1_D20 HDA12 (io) "HDIO on bank 45", S1_D21 HDA13 (io) "HDIO on bank 45", S1_D22 HDA14 (io) "HDIO on bank 45", S1_D23 GND (power) "Ground, connect to carrier card ground plane", S1_D24 PWRGD_FPD_M2C "Power good indication for PS FPD power rails", S1_D25 PWRGD_LPD_M2C "Power good indication for PS LPD power rails", S1_D26 PWRGD_PL_M2C "Power good indication for all PL power rails", S1_D27 GND (power) "Ground, connect to carrier card ground plane", S1_D28 MIO26 (io) "PS MIO signal on bank 501. Optional use as PMU input.", S1_D29 MIO27 (io) "PS MIO signal on bank 501. Optional use as PMU input.", S1_D30 MIO28 (io) "PS MIO signal on bank 501. Optional use as PMU input.", S1_D31 GND (power) "Ground, connect to carrier card ground plane", S1_D32 MIO44 (io) "PS MIO signal on bank 501", S1_D33 MIO45 (io) "PS MIO signal on bank 501", S1_D34 MIO46 (io) "PS MIO signal on bank 501", S1_D35 GND (power) "Ground, connect to carrier card ground plane", S1_D36 MIO52 (io) "PS MIO signal on bank 502", S1_D37 MIO53 (io) "PS MIO signal on bank 502", S1_D38 MIO54 (io) "PS MIO signal on bank 502", S1_D39 GND (power) "Ground, connect to carrier card ground plane", S1_D40 MIO64 (io) "PS MIO signal on bank 502", S1_D41 MIO65 (io) "PS MIO signal on bank 502", S1_D42 MIO66 (io) "PS MIO signal on bank 502", S1_D43 GND (power) "Ground, connect to carrier card ground plane", S1_D44 MIO76 (io) "PS MIO signal on bank 502", S1_D45 MIO77 (io) "PS MIO signal on bank 502", S1_D46 Reserved "No connect on the SOM", S1_D47 GND (power) "Ground, connect to carrier card ground plane", S1_D48 GND (power) "Ground, connect to carrier card ground plane", S1_D49 GTR_DP3_C2M_P (in) "PS-GTR lane 3 RX, bank 505", S1_D50 GTR_DP3_C2M_N (in) "PS-GTR lane 3 RX, bank 505", S1_D51 GND (power) "Ground, connect to carrier card ground plane", S1_D52 GND (power) "Ground, connect to carrier card ground plane", S1_D53 GTR_REFCLK2_C2M_P (in) "PS-GTR REFCLK2 input, bank 505", S1_D54 GTR_REFCLK2_C2M_N (in) "PS-GTR REFCLK2 input, bank 505", S1_D55 GND (power) "Ground, connect to carrier card ground plane", S1_D56 GND (power) "Ground, connect to carrier card ground plane", S1_D57 GTR_DP2_M2C_P (out) "PS-GTR lane 2 TX, bank 505", S1_D58 GTR_DP2_M2C_N (out) "PS-GTR lane 2 TX, bank 505", S1_D59 GND (power) "Ground, connect to carrier card ground plane", S1_D60 VCC_SOM (power) "SOM main supply voltage, +5V", S1_SH1 SH1, S1_SH2 SH2
part C pins: S2_A1 GND (power) "Ground, connect to carrier card ground plane", S2_A2 GND (power) "Ground, connect to carrier card ground plane", S2_A3 GTH_DP3_M2C_P (out) "GTH lane 3 TX, bank 224", S2_A4 GTH_DP3_M2C_N (out) "GTH lane 3 TX, bank 224", S2_A5 GND (power) "Ground, connect to carrier card ground plane", S2_A6 GND (power) "Ground, connect to carrier card ground plane", S2_A7 GTH_REFCLK1_C2M_P (in) "GTH REFCLK1 input, bank 224", S2_A8 GTH_REFCLK1_C2M_N (in) "GTH REFCLK1 input, bank 224", S2_A9 GND (power) "Ground, connect to carrier card ground plane", S2_A10 GND (power) "Ground, connect to carrier card ground plane", S2_A11 HPB15_CC_P (io) "HPIO clock-capable pin on bank 65", S2_A12 HPB15_CC_N (io) "HPIO clock-capable pin on bank 65", S2_A13 GND (power) "Ground, connect to carrier card ground plane", S2_A14 HPB08_P (io) "HPIO on bank 65", S2_A15 HPB08_N (io) "HPIO on bank 65", S2_A16 GND (power) "Ground, connect to carrier card ground plane", S2_A17 HPB12_P (io) "HPIO on bank 65", S2_A18 HPB12_N (io) "HPIO on bank 65", S2_A19 GND (power) "Ground, connect to carrier card ground plane", S2_A20 HPB06_P (io) "HPIO on bank 65", S2_A21 HPB06_N (io) "HPIO on bank 65", S2_A22 GND (power) "Ground, connect to carrier card ground plane", S2_A23 HPB16_P (io) "HPIO on bank 65", S2_A24 HPB16_N (io) "HPIO on bank 65", S2_A25 GND (power) "Ground, connect to carrier card ground plane", S2_A26 HPB19_P (io) "HPIO on bank 65", S2_A27 HPB19_N (io) "HPIO on bank 65", S2_A28 GND (power) "Ground, connect to carrier card ground plane", S2_A29 HPC08_P (io) "HPIO on bank 64", S2_A30 HPC08_N (io) "HPIO on bank 64", S2_A31 GND (power) "Ground, connect to carrier card ground plane", S2_A32 HPC19_P (io) "HPIO on bank 64", S2_A33 HPC19_N (io) "HPIO on bank 64", S2_A34 GND (power) "Ground, connect to carrier card ground plane", S2_A35 HPC14_P (io) "HPIO on bank 64", S2_A36 HPC14_N (io) "HPIO on bank 64", S2_A37 GND (power) "Ground, connect to carrier card ground plane", S2_A38 HPC15_CC_P (io) "HPIO clock-capable pin on bank 64", S2_A39 HPC15_CC_N (io) "HPIO clock-capable pin on bank 64", S2_A40 GND (power) "Ground, connect to carrier card ground plane", S2_A41 HPC03_P (io) "HPIO on bank 64", S2_A42 HPC03_N (io) "HPIO on bank 64", S2_A43 GND (power) "Ground, connect to carrier card ground plane", S2_A44 VCCO_HPB (power) "HPB I/O voltage rail, 1.0V to 1.8V", S2_A45 GND (power) "Ground, connect to carrier card ground plane", S2_A46 HDB18 (io) "HDIO on bank 43", S2_A47 HDB19 (io) "HDIO on bank 43", S2_A48 HDB20 (io) "HDIO on bank 43", S2_A49 GND (power) "Ground, connect to carrier card ground plane", S2_A50 HDB21 (io) "HDIO on bank 43", S2_A51 HDB22 (io) "HDIO on bank 43", S2_A52 HDB23 (io) "HDIO on bank 43", S2_A53 GND (power) "Ground, connect to carrier card ground plane", S2_A54 HDC18 (io) "HDIO on bank 44", S2_A55 HDC19 (io) "HDIO on bank 44", S2_A56 HDC20 (io) "HDIO on bank 44", S2_A57 GND (power) "Ground, connect to carrier card ground plane", S2_A58 HDC21 (io) "HDIO on bank 44", S2_A59 HDC22 (io) "HDIO on bank 44", S2_A60 HDC23 (io) "HDIO on bank 44", S2_B1 GTH_DP2_C2M_P (in) "GTH lane 2 RX, bank 224", S2_B2 GTH_DP2_C2M_N (in) "GTH lane 2 RX, bank 224", S2_B3 GND (power) "Ground, connect to carrier card ground plane", S2_B4 GND (power) "Ground, connect to carrier card ground plane", S2_B5 GTH_DP2_M2C_P (out) "GTH lane 2 TX, bank 224", S2_B6 GTH_DP2_M2C_N (out) "GTH lane 2 TX, bank 224", S2_B7 GND (power) "Ground, connect to carrier card ground plane", S2_B8 GND (power) "Ground, connect to carrier card ground plane", S2_B9 GTH_DP0_C2M_P (in) "GTH lane 0 RX, bank 224", S2_B10 GTH_DP0_C2M_N (in) "GTH lane 0 RX, bank 224", S2_B11 GND (power) "Ground, connect to carrier card ground plane", S2_B12 HPB10_CC_P (io) "HPIO clock-capable pin on bank 65", S2_B13 HPB10_CC_N (io) "HPIO clock-capable pin on bank 65", S2_B14 GND (power) "Ground, connect to carrier card ground plane", S2_B15 HPB07_P (io) "HPIO on bank 65", S2_B16 HPB07_N (io) "HPIO on bank 65", S2_B17 GND (power) "Ground, connect to carrier card ground plane", S2_B18 HPB05_CC_P (io) "HPIO clock-capable pin on bank 65", S2_B19 HPB05_CC_N (io) "HPIO clock-capable pin on bank 65", S2_B20 GND (power) "Ground, connect to carrier card ground plane", S2_B21 HPB11_P (io) "HPIO on bank 65", S2_B22 HPB11_N (io) "HPIO on bank 65", S2_B23 GND (power) "Ground, connect to carrier card ground plane", S2_B24 HPB03_P (io) "HPIO on bank 65", S2_B25 HPB03_N (io) "HPIO on bank 65", S2_B26 GND (power) "Ground, connect to carrier card ground plane", S2_B27 HPC06_P (io) "HPIO on bank 64", S2_B28 HPC06_N (io) "HPIO on bank 64", S2_B29 GND (power) "Ground, connect to carrier card ground plane", S2_B30 HPC13_P (io) "HPIO on bank 64", S2_B31 HPC13_N (io) "HPIO on bank 64", S2_B32 GND (power) "Ground, connect to carrier card ground plane", S2_B33 HPC16_P (io) "HPIO on bank 64", S2_B34 HPC16_N (io) "HPIO on bank 64", S2_B35 GND (power) "Ground, connect to carrier card ground plane", S2_B36 HPC07_P (io) "HPIO on bank 64", S2_B37 HPC07_N (io) "HPIO on bank 64", S2_B38 GND (power) "Ground, connect to carrier card ground plane", S2_B39 HPC18_P (io) "HPIO on bank 64", S2_B40 HPC18_N (io) "HPIO on bank 64", S2_B41 GND (power) "Ground, connect to carrier card ground plane", S2_B42 VCCO_HPB (power) "HPB I/O voltage rail, 1.0V to 1.8V", S2_B43 GND (power) "Ground, connect to carrier card ground plane", S2_B44 HDB12 (io) "HDIO on bank 43", S2_B45 HDB13 (io) "HDIO on bank 43", S2_B46 HDB14 (io) "HDIO on bank 43", S2_B47 GND (power) "Ground, connect to carrier card ground plane", S2_B48 HDB15 (io) "HDIO on bank 43", S2_B49 HDB16_CC (io) "HDIO clock-capable pin on bank 43", S2_B50 HDB17 (io) "HDIO on bank 43", S2_B51 GND (power) "Ground, connect to carrier card ground plane", S2_B52 HDC12 (io) "HDIO on bank 44", S2_B53 HDC13 (io) "HDIO on bank 44", S2_B54 HDC14 (io) "HDIO on bank 44", S2_B55 GND (power) "Ground, connect to carrier card ground plane", S2_B56 HDC15 (io) "HDIO on bank 44", S2_B57 HDC16_CC (io) "HDIO clock-capable pin on bank 44", S2_B58 HDC17 (io) "HDIO on bank 44", S2_B59 VCCO_HDB (power) "HDB I/O voltage rail, 1.2V to 3.3V", S2_B60 VCCO_HDB (power) "HDB I/O voltage rail, 1.2V to 3.3V"
part D pins: S2_C1 GND (power) "Ground, connect to carrier card ground plane", S2_C2 GND (power) "Ground, connect to carrier card ground plane", S2_C3 GTH_REFCLK0_C2M_P (in) "GTH REFCLK0 input, bank 224", S2_C4 GTH_REFCLK0_C2M_N (in) "GTH REFCLK0 input, bank 224", S2_C5 GND (power) "Ground, connect to carrier card ground plane", S2_C6 GND (power) "Ground, connect to carrier card ground plane", S2_C7 GTH_DP1_M2C_P (out) "GTH lane 1 TX, bank 224", S2_C8 GTH_DP1_M2C_N (out) "GTH lane 1 TX, bank 224", S2_C9 GND (power) "Ground, connect to carrier card ground plane", S2_C10 GND (power) "Ground, connect to carrier card ground plane", S2_C11 HPB09_P (io) "HPIO on bank 65", S2_C12 HPB09_N (io) "HPIO on bank 65", S2_C13 GND (power) "Ground, connect to carrier card ground plane", S2_C14 HPB14_P (io) "HPIO on bank 65", S2_C15 HPB14_N (io) "HPIO on bank 65", S2_C16 GND (power) "Ground, connect to carrier card ground plane", S2_C17 HPB02_P (io) "HPIO on bank 65", S2_C18 HPB02_N (io) "HPIO on bank 65", S2_C19 GND (power) "Ground, connect to carrier card ground plane", S2_C20 HPB13_P (io) "HPIO on bank 65", S2_C21 HPB13_N (io) "HPIO on bank 65", S2_C22 GND (power) "Ground, connect to carrier card ground plane", S2_C23 HPB18_P (io) "HPIO on bank 65", S2_C24 HPB18_N (io) "HPIO on bank 65", S2_C25 GND (power) "Ground, connect to carrier card ground plane", S2_C26 HPC17_P (io) "HPIO on bank 64", S2_C27 HPC17_N (io) "HPIO on bank 64", S2_C28 GND (power) "Ground, connect to carrier card ground plane", S2_C29 HPC10_CC_P (io) "HPIO clock-capable pin on bank 64", S2_C30 HPC10_CC_N (io) "HPIO clock-capable pin on bank 64", S2_C31 GND (power) "Ground, connect to carrier card ground plane", S2_C32 HPC11_P (io) "HPIO on bank 64", S2_C33 HPC11_N (io) "HPIO on bank 64", S2_C34 GND (power) "Ground, connect to carrier card ground plane", S2_C35 HPC12_P (io) "HPIO on bank 64", S2_C36 HPC12_N (io) "HPIO on bank 64", S2_C37 GND (power) "Ground, connect to carrier card ground plane", S2_C38 HPC05_CC_P (io) "HPIO clock-capable pin on bank 64", S2_C39 HPC05_CC_N (io) "HPIO clock-capable pin on bank 64", S2_C40 GND (power) "Ground, connect to carrier card ground plane", S2_C41 HPC_CLK0_P (io) "HPIO global clock pin on bank 64", S2_C42 HPC_CLK0_N (io) "HPIO global clock pin on bank 64", S2_C43 GND (power) "Ground, connect to carrier card ground plane", S2_C44 VCCO_HPC (power) "HPC I/O voltage rail, 1.0V to 1.8V", S2_C45 GND (power) "Ground, connect to carrier card ground plane", S2_C46 HDB06 (io) "HDIO on bank 43", S2_C47 HDB07 (io) "HDIO on bank 43", S2_C48 HDB08_CC (io) "HDIO clock-capable pin on bank 43", S2_C49 GND (power) "Ground, connect to carrier card ground plane", S2_C50 HDB09 (io) "HDIO on bank 43", S2_C51 HDB10 (io) "HDIO on bank 43", S2_C52 HDB11 (io) "HDIO on bank 43", S2_C53 GND (power) "Ground, connect to carrier card ground plane", S2_C54 HDC06 (io) "HDIO on bank 44", S2_C55 HDC07 (io) "HDIO on bank 44", S2_C56 HDC08_CC (io) "HDIO clock-capable pin on bank 44", S2_C57 GND (power) "Ground, connect to carrier card ground plane", S2_C58 HDC09 (io) "HDIO on bank 44", S2_C59 HDC10 (io) "HDIO on bank 44", S2_C60 HDC11 (io) "HDIO on bank 44", S2_D1 GTH_DP1_C2M_P (in) "GTH lane 1 RX, bank 224", S2_D2 GTH_DP1_C2M_N (in) "GTH lane 1 RX, bank 224", S2_D3 GND (power) "Ground, connect to carrier card ground plane", S2_D4 GND (power) "Ground, connect to carrier card ground plane", S2_D5 GTH_DP3_C2M_P (in) "GTH lane 3 RX, bank 224", S2_D6 GTH_DP3_C2M_N (in) "GTH lane 3 RX, bank 224", S2_D7 GND (power) "Ground, connect to carrier card ground plane", S2_D8 GND (power) "Ground, connect to carrier card ground plane", S2_D9 GTH_DP0_M2C_P (out) "GTH lane 0 TX, bank 224", S2_D10 GTH_DP0_M2C_N (out) "GTH lane 0 TX, bank 224", S2_D11 GND (power) "Ground, connect to carrier card ground plane", S2_D12 HPB01_P (io) "HPIO on bank 65", S2_D13 HPB01_N (io) "HPIO on bank 65", S2_D14 GND (power) "Ground, connect to carrier card ground plane", S2_D15 HPB00_CC_P (io) "HPIO clock-capable pin on bank 65", S2_D16 HPB00_CC_N (io) "HPIO clock-capable pin on bank 65", S2_D17 GND (power) "Ground, connect to carrier card ground plane", S2_D18 HPB_CLK0_P (io) "HPIO global clock pin on bank 65", S2_D19 HPB_CLK0_N (io) "HPIO global clock pin on bank 65", S2_D20 GND (power) "Ground, connect to carrier card ground plane", S2_D21 HPB04_P (io) "HPIO on bank 65", S2_D22 HPB04_N (io) "HPIO on bank 65", S2_D23 GND (power) "Ground, connect to carrier card ground plane", S2_D24 HPB17_P (io) "HPIO on bank 65", S2_D25 HPB17_N (io) "HPIO on bank 65", S2_D26 GND (power) "Ground, connect to carrier card ground plane", S2_D27 HPC09_P (io) "HPIO on bank 64", S2_D28 HPC09_N (io) "HPIO on bank 64", S2_D29 GND (power) "Ground, connect to carrier card ground plane", S2_D30 HPC01_P (io) "HPIO on bank 64", S2_D31 HPC01_N (io) "HPIO on bank 64", S2_D32 GND (power) "Ground, connect to carrier card ground plane", S2_D33 HPC00_CC_P (io) "HPIO clock-capable pin on bank 64", S2_D34 HPC00_CC_N (io) "HPIO clock-capable pin on bank 64", S2_D35 GND (power) "Ground, connect to carrier card ground plane", S2_D36 HPC02_P (io) "HPIO on bank 64", S2_D37 HPC02_N (io) "HPIO on bank 64", S2_D38 GND (power) "Ground, connect to carrier card ground plane", S2_D39 HPC04_P (io) "HPIO on bank 64", S2_D40 HPC04_N (io) "HPIO on bank 64", S2_D41 GND (power) "Ground, connect to carrier card ground plane", S2_D42 VCCO_HPC (power) "HPC I/O voltage rail, 1.0V to 1.8V", S2_D43 GND (power) "Ground, connect to carrier card ground plane", S2_D44 HDB00_CC (io) "HDIO clock-capable pin on bank 43", S2_D45 HDB01 (io) "HDIO on bank 43", S2_D46 HDB02 (io) "HDIO on bank 43", S2_D47 GND (power) "Ground, connect to carrier card ground plane", S2_D48 HDB03 (io) "HDIO on bank 43", S2_D49 HDB04 (io) "HDIO on bank 43", S2_D50 HDB05 (io) "HDIO on bank 43", S2_D51 GND (power) "Ground, connect to carrier card ground plane", S2_D52 HDC00_CC (io) "HDIO clock-capable pin on bank 44", S2_D53 HDC01 (io) "HDIO on bank 44", S2_D54 HDC02 (io) "HDIO on bank 44", S2_D56 HDC03 (io) "HDIO on bank 44", S2_D57 HDC04 (io) "HDIO on bank 44", S2_D58 HDC05 (io) "HDIO on bank 44", S2_D59 VCCO_HDC (power) "HDC I/O voltage rail, 1.2V to 3.3V", S2_D60 VCCO_HDC (power) "HDC I/O voltage rail, 1.2V to 3.3V", S2_SH1 SH1, S2_SH2 SH2
part A text: SOM1; A & B
part B text: SOM1; C & D
part C text: SOM2; A & B
part D text: SOM2; C & D

## M20-9770246
designator J?
CONN HEADER VERT 2POS 2.54MM; Positions: 2; Rows: 1; Manufacturer Part Number: M20-9770246
footprint 61300211121 (CONN HEADER VERT 2POS 2.54MM)
pins: 1, 2

## MOLEX_22112022
designator J?, comment 22112022
CONN HEADER VERT 2POS 2.54MM; Manufacturer: Molex; Positions: 2; Rows: 1; Manufacturer Part Number: 22112022
pins: 1, 2

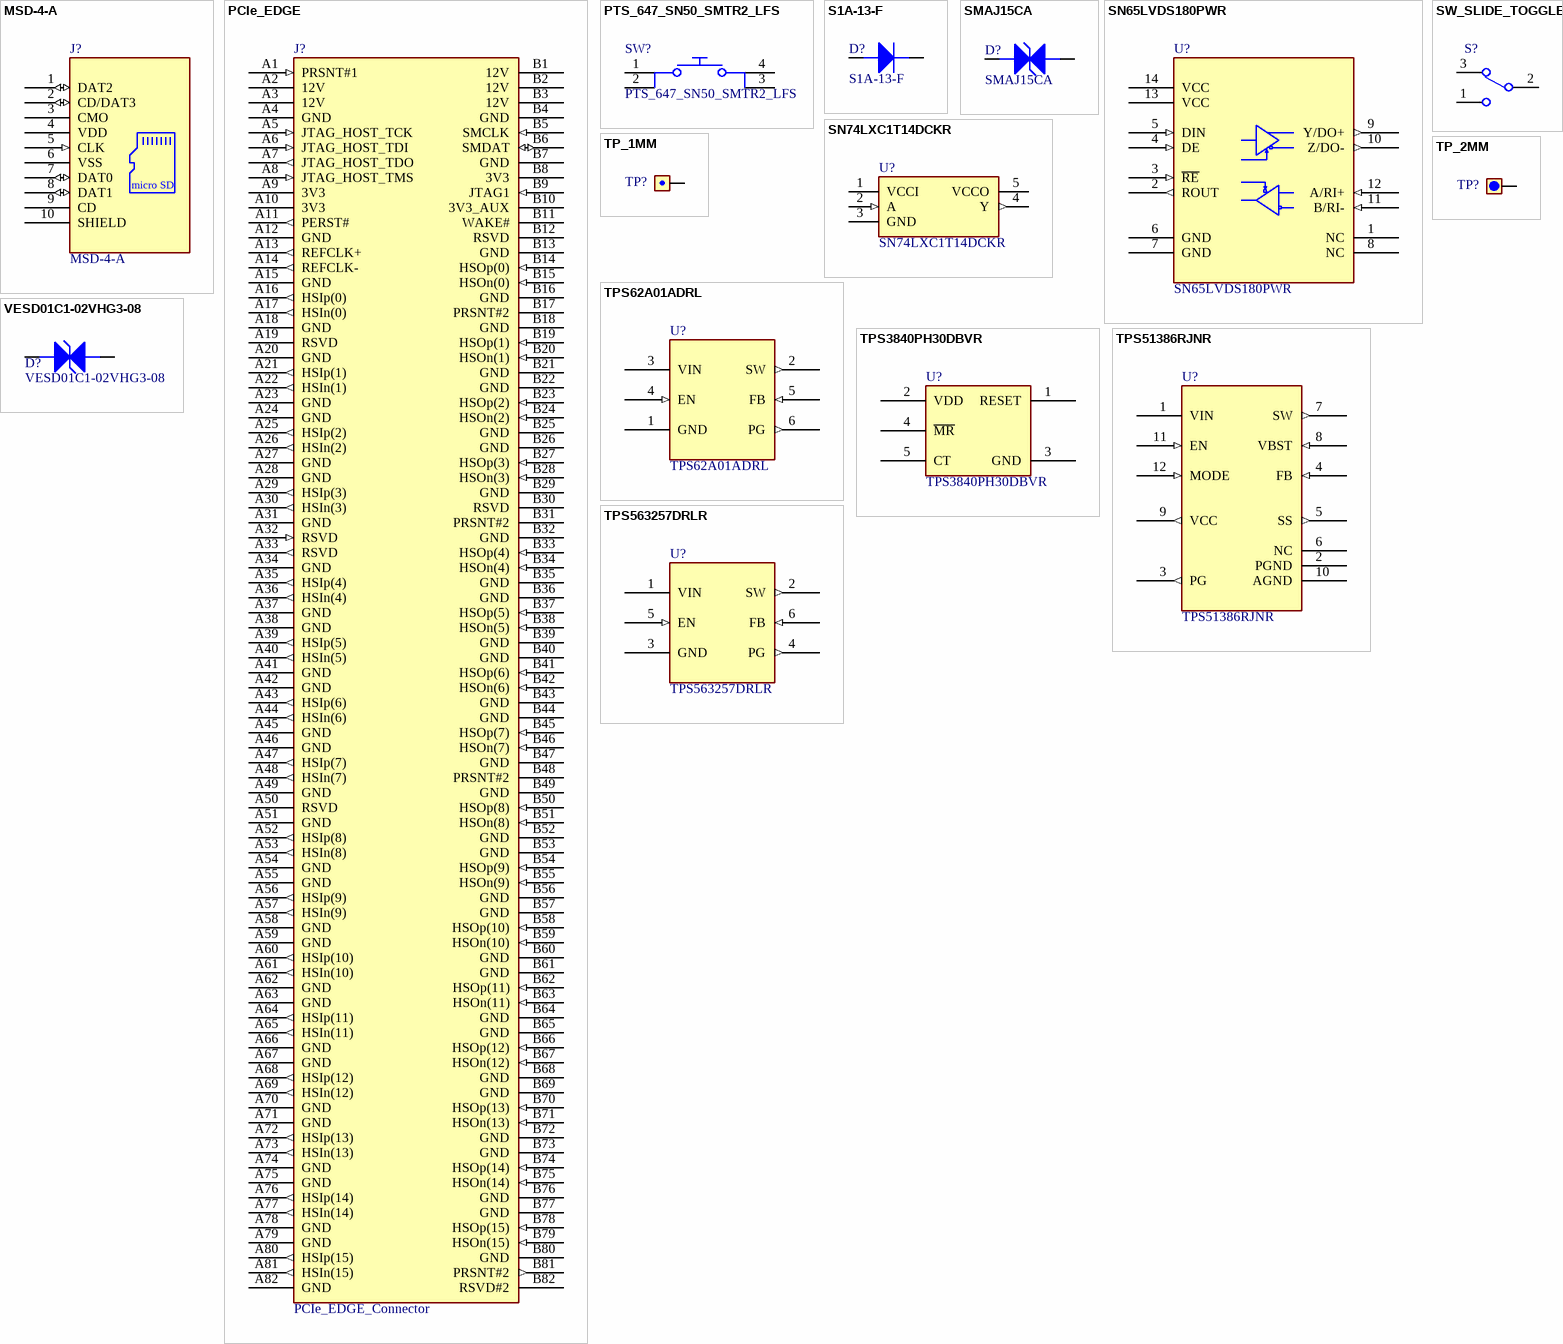
[diagram p3: symbols MSD-4-A to VESD01C1-02VHG3-08]

## MSD-4-A
designator J?
MICRO SD CARD CONNECTOR, 9 POSIT
pins: 1 DAT2 (io), 2 CD/DAT3 (io), 3 CMO, 4 VDD, 5 CLK (in), 6 VSS, 7 DAT0 (io), 8 DAT1 (io), 9 CD, 10 SHIELD
text: micro SD

## PCIe_EDGE
designator J?, comment PCIe_EDGE_Connector
PCIe 3.3V x16
footprint PCIe
pins: A1 PRSNT#1 (in) "The presence detects indication. Should be grounded on the carrier board.", A2 12V (power) "Power", A3 12V (power) "Power", A4 GND (power) "Ground", A5 JTAG_HOST_TCK (in) "TCK", A6 JTAG_HOST_TDI (in) "TDI", A7 JTAG_HOST_TDO (out) "TDO", A8 JTAG_HOST_TMS (in) "TMS", A9 3V3 (power) "Power", A10 3V3 (power) "Power", A11 PERST# (out) "PCIe Interface Reset#", A12 GND (power) "Ground", A13 REFCLK+ (out) "PCIe Reference Differential Clock", A14 REFCLK- (out) "PCIe Reference Differential Clock", A15 GND (power) "Ground", A16 HSIp(0) (out) "RX Lane 0", A17 HSIn(0) (out) "RX Lane 0", A18 GND (power) "Ground", A19 RSVD "NC", A20 GND (power) "Ground", A21 HSIp(1) (out) "RX Lane 1", A22 HSIn(1) (out) "RX Lane 1", A23 GND (power) "Ground", A24 GND (power) "Ground", A25 HSIp(2) (out) "RX Lane 2", A26 HSIn(2) (out) "RX Lane 2", A27 GND (power) "Ground", A28 GND (power) "Ground", A29 HSIp(3) (out) "RX Lane 3", A30 HSIn(3) (out) "RX Lane 3", A31 GND (power) "Ground", A32 RSVD (in) "UART0_RXD", A33 RSVD (out) "UART0_TXD", A34 GND (power) "Ground", A35 HSIp(4) (out) "RX Lane 4", A36 HSIn(4) (out) "RX Lane 4", A37 GND (power) "Ground", A38 GND (power) "Ground", A39 HSIp(5) (out) "RX Lane 5", A40 HSIn(5) (out) "RX Lane 5", A41 GND (power) "Ground", A42 GND (power) "Ground", A43 HSIp(6) (out) "RX Lane 6", A44 HSIn(6) (out) "RX Lane 6", A45 GND (power) "Ground", A46 GND (power) "Ground", A47 HSIp(7) (out) "RX Lane 7", A48 HSIn(7) (out) "RX Lane 7", A49 GND (power) "Ground", A50 RSVD "Not connected", A51 GND (power) "Ground", A52 HSIp(8) (out) "RX Lane 8", A53 HSIn(8) (out) "RX Lane 8", A54 GND (power) "Ground", A55 GND (power) "Ground", A56 HSIp(9) (out) "RX Lane 9", A57 HSIn(9) (out) "RX Lane 9", A58 GND (power) "Ground", A59 GND (power) "Ground", A60 HSIp(10) (out) "RX Lane 10", A61 HSIn(10) (out) "RX Lane 10", A62 GND (power) "Ground", A63 GND (power) "Ground", A64 HSIp(11) (out) "RX Lane 11", A65 HSIn(11) (out) "RX Lane 11", A66 GND (power) "Ground", A67 GND (power) "Ground", A68 HSIp(12) (out) "RX Lane 12", A69 HSIn(12) (out) "RX Lane 12", A70 GND (power) "Ground", A71 GND (power) "Ground", A72 HSIp(13) (out) "RX Lane 13", A73 HSIn(13) (out) "RX Lane 13", A74 GND (power) "Ground", A75 GND (power) "Ground", A76 HSIp(14) (out) "RX Lane 14", A77 HSIn(14) (out) "RX Lane 14", A78 GND (power) "Ground", A79 GND (power) "Ground", A80 HSIp(15) (out) "RX Lane 15", A81 HSIn(15) (out) "RX Lane 15", A82 GND (power) "Ground", B1 12V (power) "Power", B2 12V (power) "Power", B3 12V (power) "Power", B4 GND (power) "Ground", B5 SMCLK (in) "SMBUS_SCL", B6 SMDAT (io) "SMBUS_SDA", B7 GND (power) "Ground", B8 3V3 (power) "Power", B9 JTAG1 (in) "TRST#", B10 3V3_AUX (power), B11 WAKE# "Link Reactivation", B12 RSVD "Reserved", B13 GND (power) "Ground", B14 HSOp(0) (in) "TX Lane 0", B15 HSOn(0) (in) "TX Lane 0", B16 GND (power) "Ground", B17 PRSNT#2 "Hotplug detect", B18 GND (power) "Ground", B19 HSOp(1) (in) "TX Lane 1", B20 HSOn(1) (in) "TX Lane 1", B21 GND (power) "Ground", B22 GND (power) "Ground", B23 HSOp(2) (in) "TX Lane 2", B24 HSOn(2) (in) "TX Lane 2", B25 GND (power) "Ground", B26 GND (power) "Ground", B27 HSOp(3) (in) "TX Lane 3", B28 HSOn(3) (in) "TX Lane 3", B29 GND (power) "Ground", B30 RSVD "Reserved", B31 PRSNT#2 "Hotplug detect", B32 GND (power) "Ground", B33 HSOp(4) (in) "TX Lane 4", B34 HSOn(4) (in) "TX Lane 4", B35 GND (power) "Ground", B36 GND (power) "Ground", B37 HSOp(5) (in) "TX Lane 5", B38 HSOn(5) (in) "TX Lane 5", B39 GND (power) "Ground", B40 GND (power) "Ground", B41 HSOp(6) (in) "TX Lane 6", B42 HSOn(6) (in) "TX Lane 6", B43 GND (power) "Ground", B44 GND (power) "Ground", B45 HSOp(7) (in) "TX Lane 7", B46 HSOn(7) (in) "TX Lane 7", B47 GND (power) "Ground", B48 PRSNT#2 "Hotplug detect", B49 GND (power) "Ground", B50 HSOp(8) (in) "TX Lane 8", B51 HSOn(8) (in) "TX Lane 8", B52 GND (power) "Ground", B53 GND (power) "Ground", B54 HSOp(9) (in) "TX Lane 9", B55 HSOn(9) (in) "TX Lane 9", B56 GND (power) "Ground", B57 GND (power) "Ground", B58 HSOp(10) (in) "TX Lane 10", B59 HSOn(10) (in) "TX Lane 10", B60 GND (power) "Ground", B61 GND (power) "Ground", B62 HSOp(11) (in) "TX Lane 11", B63 HSOn(11) (in) "TX Lane 11", B64 GND (power) "Ground", B65 GND (power) "Ground", B66 HSOp(12) (in) "TX Lane 12", B67 HSOn(12) (in) "TX Lane 12", B68 GND (power) "Ground", B69 GND (power) "Ground", B70 HSOp(13) (in) "TX Lane 13", B71 HSOn(13) (in) "TX Lane 13", B72 GND (power) "Ground", B73 GND (power) "Ground", B74 HSOp(14) (in) "TX Lane 14", B75 HSOn(14) (in) "TX Lane 14", B76 GND (power) "Ground", B77 GND (power) "Ground", B78 HSOp(15) (in) "TX Lane 15", B79 HSOn(15) (in) "TX Lane 15", B80 GND (power) "Ground", B81 PRSNT#2 (out) "Hotplug present detect", B82 RSVD#2 "Hotplug detect"

## PTS_647_SN50_SMTR2_LFS
designator SW?
SWITCH TACTILE SPST-NO 0.05A 12V
footprint TACTILE_SW_4.5MM (CKS Tactile Switch - 4.5mm x 4.5mm)
pins: 1, 2, 3, 4

## S1A-13-F
designator D?
Diode 50 V 1A Surface Mount SMA; Reverse Voltage: 50V; Forward Voltage: 1.1V; Manufacturer Part Number: S1A-13-F; Current Rating: 1A
footprint DIODES_SMA
pins: A Anode, K Cathode

## SMAJ15CA
designator D?, comment Manufacturer Part Number: SMAJ15CA  (hidden comment: TVS DIODE 15VWM 24.4VC DO214AC)
24.4V Clamp 16.4A Ipp Tvs Diode Surface Mount DO-214AC (SMA)
footprint LITTLEFUSE_DO-2014
pins: A Anode, K Cathode